# Altium footprint library PcbLib1.PcbLib: 18 footprints (part 1 of 2)
Each footprint in its own frame and in the unit in brackets; x right, y up, seen from the top. Pads: shape width x height; smd on the part's side, far side on the other; paste and mask are expansions set on the pad; w line width, h text height; cw(c..) or ccw(c..) is an arc to the next point about the centre after c.
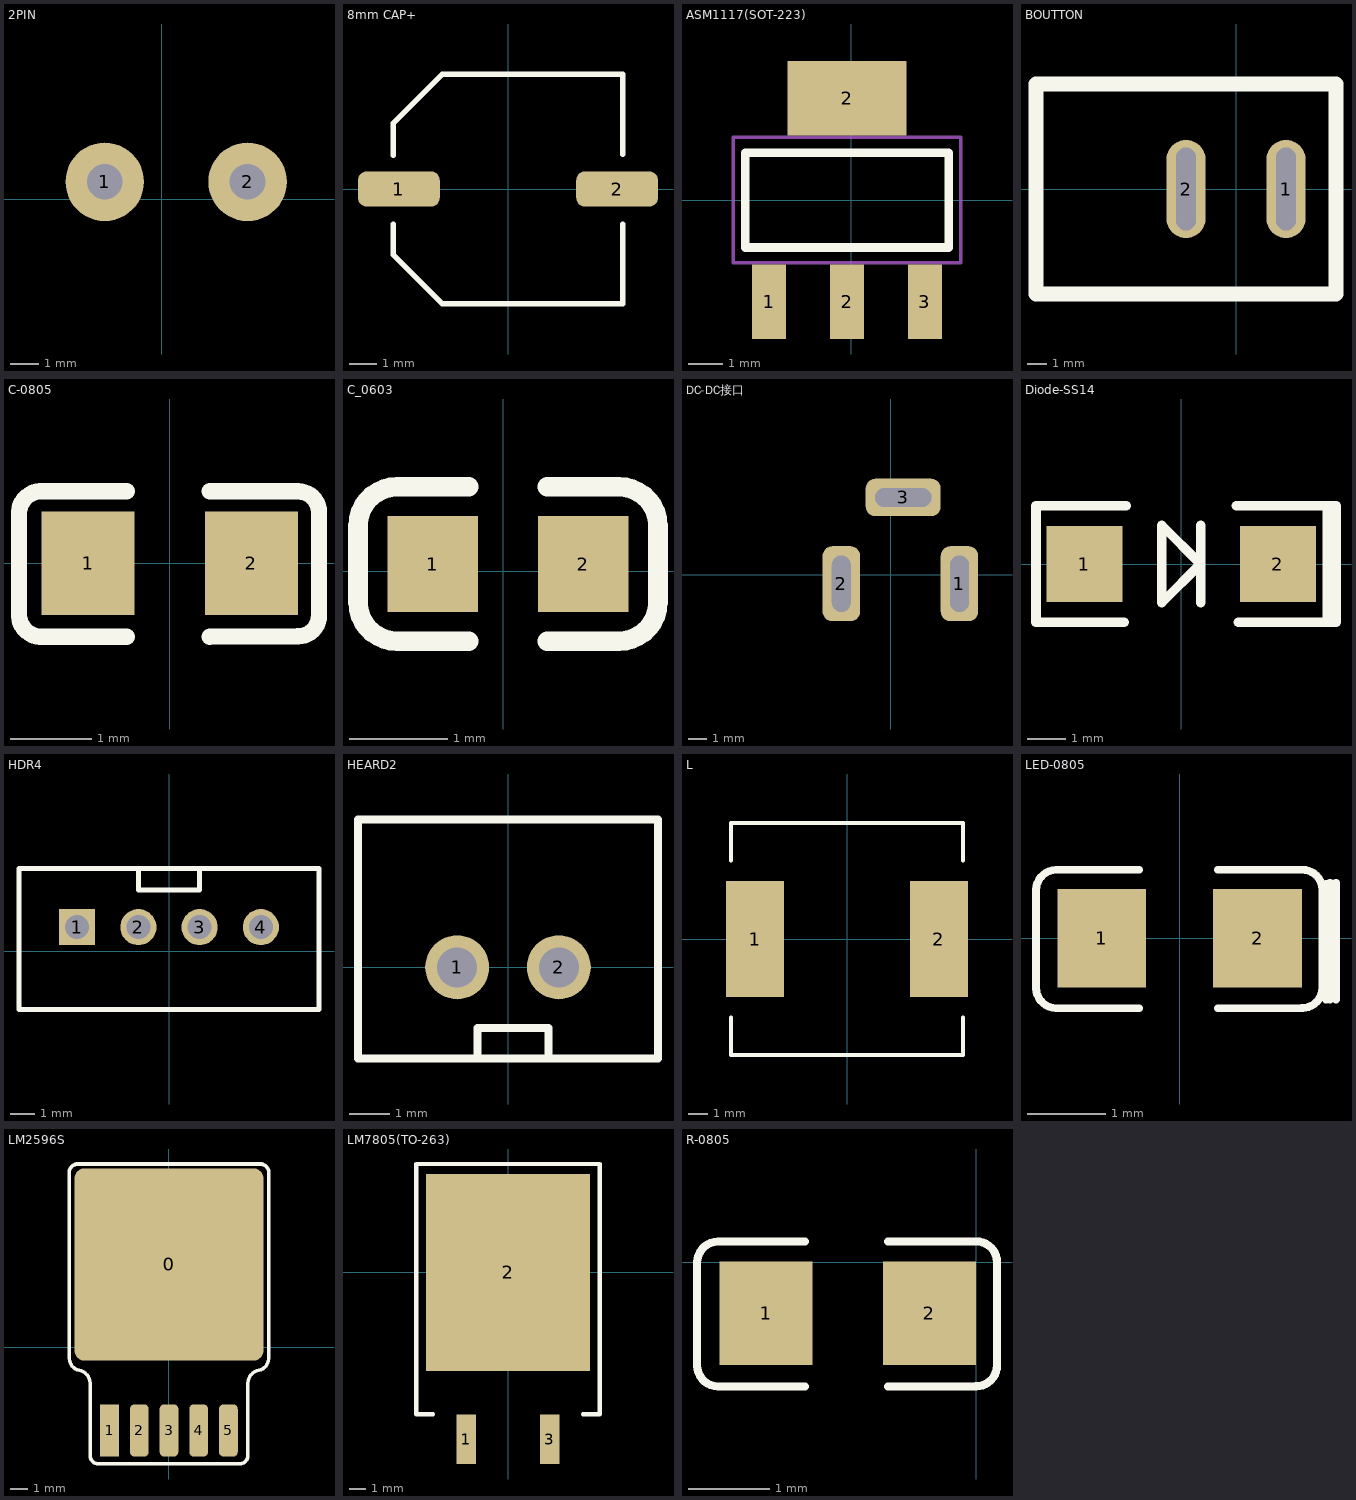
[diagram p0: the footprints below, top view; thin cyan lines are the x and y axes]

## 2PIN [mil] "2PIN座子"
pads (2):
  round 110 hole 50: 1(-80,24) 2(120,24)
Bottom Overlay:
  lines w6: -10,164 -10,134 50,134 50,164 ; -200,-106 -180,-106 -180,-136 220,-136 220,-106 200,-106 200,-66 220,-66 220,164 -180,164 -180,-66 -200,-66 -200,-106
3D body "terminal_blocks_a-tb508-tc02.stp": height 113.86, standoff -411.73, extent -198,-134 249.24,161.28

## 8mm CAP+ [mm] "贴片电解电容直径8mm"
pads (2):
  rrect50% 3x1.3 smd: 1(-4,0) 2(4,0)
Top Overlay:
  lines w0.2: -4.2,-1.286 -4.2,-2.413 -2.413,-4.2 4.2,-4.2 4.2,-1.295 ; -4.2,1.228 -4.2,2.413 -2.413,4.2 4.2,4.2 4.2,1.279
3D body "SL-H.step": height 10.5, standoff 0, extent -4.521,-4.216 4.479,4.084

## ASM1117(SOT-223) [mm] "三端稳压芯片"
pads (4):
  rect 1x2.2 smd: 1(-2.427,-3) 2(-0.127,-3) 3(2.173,-3)
  rect 3.5x2.2 smd: 2(-0.127,3)
Top Overlay:
  lines w0.254: -3.127,-1.4 2.873,-1.4 2.873,1.4 -3.127,1.4 -3.127,-1.4
Mechanical 13:
  lines w0.1: -3.477,-1.85 -3.477,1.85 3.223,1.85 3.223,-1.85 -3.477,-1.85
3D body "SOT-223_MP04A.STEP": height -0.4, standoff -2.1, extent -3.377,-3.48 3.123,3.48

## BOUTTON [mm] "Boutton 开关"
pads (2):
  oval 2x5 hole 1 slot 4.2 at 90 deg: 1(2.54,0) 2(-2.54,0)
Top Overlay:
  lines w0.762: -10.16,-5.334 5.08,-5.334 5.08,5.334 -10.16,5.334 -10.16,-5.334
3D body "KCD11 2脚开关.step": height 14.16, standoff -4.85, extent -10.071,-5.25 4.988,5.25

## C-0805 [mm] "0805封装电容"
pads (2):
  rect 1.14x1.27 smd: 1(-1,0) 2(1,0)
Top Overlay:
  lines w0.2: -0.524,-0.899 -1.591,-0.899 cw(c-1.578,-0.632) -1.845,-0.645 -1.845,0.625 cw(c-1.578,0.612) -1.591,0.879 -0.524,0.879 ; 0.492,-0.899 1.569,-0.895 ; 0.492,0.879 1.575,0.879 cw(c1.575,0.625) 1.829,0.625 1.829,-0.641 cw(c1.575,-0.641) 1.575,-0.895
3D body "0805 SMD Capacitor.STEP": height 0.78, standoff 0, extent -1,-0.625 1,0.625

## C_0603 [mm] "0603电容"
pads (2):
  rect 0.93x0.98 smd: 1(-0.719,0.076) 2(0.821,0.076)
Top Overlay:
  lines w0.2: -0.349,-0.714 -1.084,-0.714 cw(c-1.084,-0.314) -1.484,-0.314 -1.484,0.466 cw(c-1.084,0.466) -1.084,0.866 -0.349,0.866 ; 0.451,-0.714 1.186,-0.714 ccw(c1.186,-0.314) 1.586,-0.314 1.586,0.466 ccw(c1.186,0.466) 1.186,0.866 0.451,0.866
3D body "User Library-0603 SMD Capacitor.STEP": height 0.3, standoff 0, extent -0.749,-0.324 0.851,0.476

## DC-DC接口 [mm] "DC-DC接口"
pads (3):
  rrect50% 2x4 hole 1 slot 3 at 90 deg: 1(3.658,-0.483) 2(-2.642,-0.483)
  rrect50% 4x2 hole 1 slot 3 at 0 deg: 3(0.658,4.117)
Bottom Overlay:
  lines w0.254: -6.833,-4.978 -6.833,4.013 ; -6.833,-3.988 3.658,-3.988 ; -6.833,3.023 3.658,3.023 ; -10.338,-4.978 3.658,-4.978 3.658,4.013 -10.338,4.013 -10.338,-4.978
3D body "User Library-dc range - dc connector[4840_2201].STEP": height 11.02, standoff -3.48, extent -10.126,-4.986 3.701,4.52

## Diode-SS14 [mm] "肖特基二极管 SS14"
pads (2):
  rect 2x2 smd: 1(-2.54,0) 2(2.54,0)
Top Overlay:
  lines w0.25: -1.499,-1.524 -3.81,-1.524 -3.81,1.524 -1.448,1.524 ; 0.508,-1.016 0.508,1.016 ; 1.448,1.524 3.81,1.524 ; 1.499,-1.524 3.81,-1.524 4.064,-1.524 4.064,1.524 ; 3.835,-1.524 3.835,1.524 ; 3.81,1.524 4.064,1.524 ; 3.81,1.524 4.064,1.524 ; -0.508,-1.016 -0.508,1.016 0.508,0 -0.508,-1.016
3D body "SW3dPS-DO-214AC SMA.STEP": height 2.4, standoff 0, extent -2.6,-1.3 2.6,1.3

## HDR4 [mm] "4PIN座子 2.54mm"
pads (4):
  rect 1.5x1.5 hole 1: 1(-3.81,1)
  round 1.5 hole 1: 2(-1.27,1) 3(1.27,1) 4(3.81,1)
Top Overlay:
  lines w0.2: -1.27,3.429 -1.27,2.54 1.27,2.54 1.27,3.429 ; -6.223,-2.413 6.223,-2.413 6.223,3.429 -4.651,3.429 -6.223,3.429 -6.223,-2.413
3D body "XH2.54-4  1234.step": height 7, standoff -3.4, extent -6.2,-2.367 6.2,3.383

## HEARD2 [mm] "HEARD2座子"
pads (2):
  round 1.6 hole 1: 1(-1.27,0) 2(1.27,0)
Top Overlay:
  lines w0.2: -0.762,-2.286 -0.762,-1.778 -0.762,-1.524 1.016,-1.524 1.016,-2.286 ; -3.75,-2.286 -3.75,3.7 3.75,3.7 3.75,-2.286 -3.75,-2.286
3D body "PH-2.step": height 7, standoff -3.5, extent -3.77,-2.2 3.73,3.55

## L [mm] "电感7x7"
pads (2):
  rect 3x6 smd: 1(-4.75,0) 2(4.75,0)
Top Overlay:
  lines w0.2: -6,-4.064 -6,-6 6,-6 6,-4.064 ; -6,4.064 -6,6 6,6 6,4.064
3D body "User Library-A3D-010-00005电感.step": height 8, standoff 0, extent -6,-6 6,6

## LED-0805 [mm] "0805LED"
pads (2):
  rect 1.14x1.27 smd: 1(-1,0) 2(1,0)
Top Overlay:
  lines w0.1: -0.524,-0.899 -1.591,-0.899 cw(c-1.578,-0.632) -1.845,-0.645 -1.845,0.625 cw(c-1.578,0.612) -1.591,0.879 -0.524,0.879 ; 0.492,-0.899 1.569,-0.895 ; 0.492,0.879 1.575,0.879 cw(c1.575,0.625) 1.829,0.625 1.829,-0.641 cw(c1.575,-0.641) 1.575,-0.895 ; 1.88,-0.787 1.88,0.697 ; 1.93,-0.787 1.93,0.711 ; 2.007,-0.787 2.007,0.711
3D body "LED0805.STEP": height 1.5, standoff 0.4, extent -1.01,-0.625 1.01,0.625

## LM2596S [mm]
pads (6):
  rrect10% 10.8x11 smd: 0(0,4.75)
  rect 1.07x3 smd: 1(-3.4,-4.75)
  rrect50% 1.07x3 smd: 2(-1.7,-4.75) 3(0,-4.75) 4(1.7,-4.75) 5(3.4,-4.75)
Top Overlay:
  lines w0.2: -4.512,-6.122 ccw(c-4.028,-6.181) -4.125,-6.659 ; 4.125,-6.659 ccw(c4.028,-6.181) 4.512,-6.122
  lines w0.203: -5.7,10.05 -5.7,-0.53 ccw(c-5.005,-0.615) -5.145,-1.301 cw(c-5.306,-2.084) -4.512,-2.181 -4.512,-6.122 ; -5.7,10.109 cw(c-5.222,10.011) -5.299,10.493 ; -5.3,10.5 5.3,10.5 ; -4.125,-6.659 4.125,-6.659 ; 4.512,-6.122 4.512,-2.181 cw(c5.306,-2.084) 5.145,-1.301 ccw(c5.005,-0.615) 5.7,-0.53 5.7,10.05 ; 5.299,10.493 cw(c5.222,10.011) 5.7,10.109
3D body "SW3dPS-LTC DD-PAK.STEP": height 4.48, standoff 0, extent -5.137,-4.801 5.086,9.55

## LM7805(TO-263) [mm] "LM7805"
pads (3):
  rect 1.2x3 smd: 1(-2.54,-10.16) 3(2.54,-10.16)
  rect 10x12 smd: 2(0,0)
Top Overlay:
  lines w0.254: -4.572,-8.636 -5.588,-8.636 -5.588,6.604 5.588,6.604 5.588,-8.636 4.572,-8.636
3D body "User Library-sot404.step": height 4.55, standoff 0, extent -5,-10.669 5,5.131

## PCBComponent_1 [mm]

## R-0805 [mm] "0805封装电阻"
pads (2):
  rect 1.14x1.27 smd: 1(-2.575,-0.625) 2(-0.575,-0.625)
Top Overlay:
  lines w0.1: -2.099,-1.524 -3.166,-1.524 cw(c-3.153,-1.257) -3.42,-1.27 -3.42,0 cw(c-3.153,-0.013) -3.166,0.254 -2.099,0.254 ; -1.083,-1.524 -0.005,-1.52 ; -1.083,0.254 0,0.254 cw(c0,0) 0.254,0 0.254,-1.266 cw(c0,-1.266) 0,-1.52
3D body "RES0805.STEP": height 0.4, standoff -0.01, extent -2.575,-1.25 -0.575,0